# EAGLE library part HN1C01F (library SparkFun-DiscreteSemi)
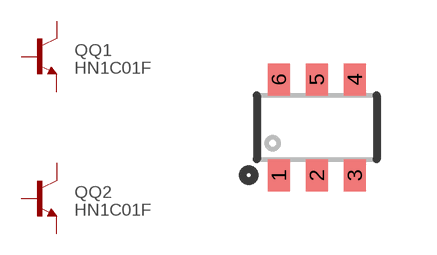
[diagram p13: symbol with the pads of SOT26; footprint SOT26]

Designator prefix Q; gates Q1=NPN Q2=NPN

## HN1C01F  [SOT26]
1  Q1:E  pas
2  Q1:B  pas
3  Q2:C  pas
4  Q2:E  pas
5  Q2:B  pas
6  Q1:C  pas

## Footprint SOT26 (pad centres in mm)
Footprint for SOT-26 part DMP2240UDM
smd 0.55 x 0.8: 1 -0.95,-1.2; 2 0,-1.2; 3 0.95,-1.2; 4 0.95,1.2; 5 0,1.2; 6 -0.95,1.2